# Altium footprint library Footprints.PcbLib: 10 footprints
Each footprint in its own frame and in the unit in brackets; x right, y up, seen from the top. Pads: shape width x height; smd on the part's side, far side on the other; paste and mask are expansions set on the pad; w line width, h text height; cw(c..) or ccw(c..) is an arc to the next point about the centre after c.
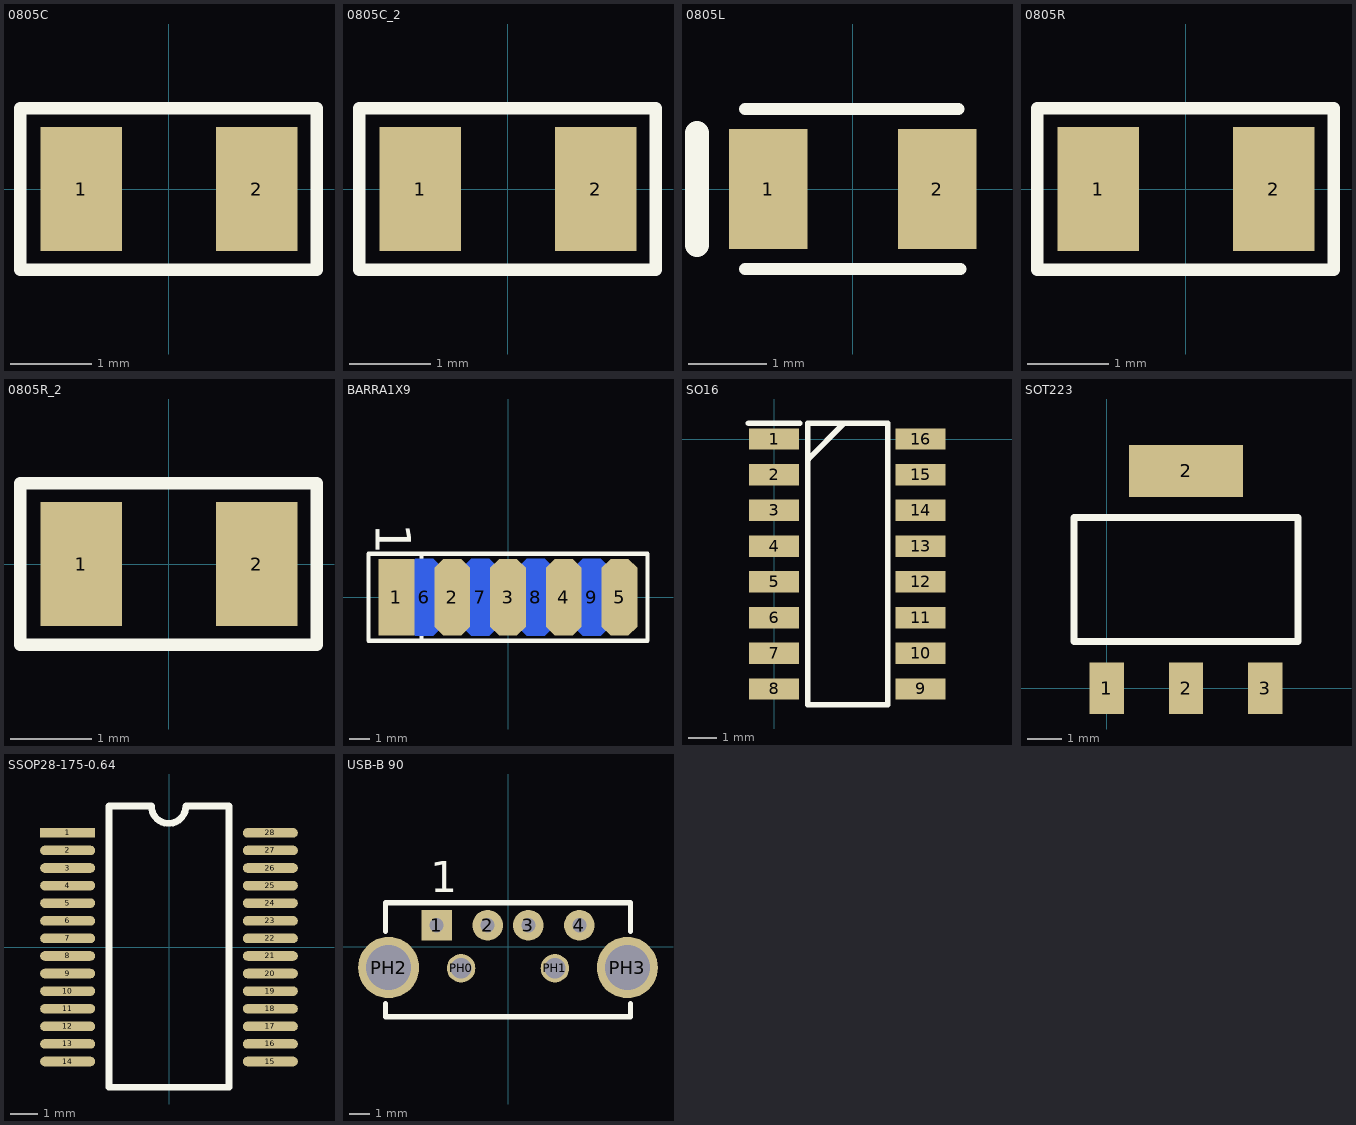
[diagram p0: the footprints below, top view; thin cyan lines are the x and y axes]

## 0805C [mil]
height 21.65
pads (2):
  rect 39.37x60 smd: 1(-42.3,0) 2(42.3,0)
Top Overlay:
  lines w6: -71.7,-39 71.3,-39 71.3,39 -71.7,39 -71.7,-39
3D body "User Library-cap0805_cap0805_body.STEP": height 35.83, standoff -0.39, extent -39.57,-24.6 39.57,24.6

## 0805C_2 [mil]
pads (2):
  rect 39.37x60 smd: 1(-42.3,0) 2(42.3,0)
Top Overlay:
  lines w6: -71.7,-39 71.3,-39 71.3,39 -71.7,39 -71.7,-39
3D body "User Library-cap0805_cap0805_body.STEP": height 35.83, standoff -0.39, extent -39.57,-24.6 39.57,24.6

## 0805L [mil] "LED 0805"
pads (2):
  rect 39.37x60 smd: 1(-42.3,0) 2(42.3,0)
Top Overlay:
  lines w6: -54,-40 54,-40 ; -54,40 53,40
  lines w12: -78,-28 -78,28
3D body "0805LED.STEP": height 43.31, standoff 0, extent -39.76,-24.6 39.77,24.61

## 0805R [mil] "Resistor"
height 21.65
pads (2):
  rect 39.37x60 smd: 1(-42.3,0) 2(42.3,0)
Top Overlay:
  lines w6: -71.7,-39 71.3,-39 71.3,39 -71.7,39 -71.7,-39
3D body "User Library-res0805_res0805_body.STEP": height 20, standoff 0, extent -39.5,-24.5 39.5,24.5

## 0805R_2 [mil]
pads (2):
  rect 39.37x60 smd: 1(-42.3,0) 2(42.3,0)
Top Overlay:
  lines w6: -71.7,-39 71.3,-39 71.3,39 -71.7,39 -71.7,-39
3D body "User Library-res0805_res0805_body.STEP": height 20, standoff 0, extent -39.5,-24.5 39.5,24.5

## BARRA1X9 [mil] "ESPERA DB9"
pads (9):
  rect 70x150 smd: 1(-218.11,0)
  oct 70x150 smd: 2(-109.06,0) 3(0,0) 4(109.06,0) 5(218.11,0)
  oct 70x150 smd far side: 6(-163.58,0) 7(-54.53,0) 8(54.53,0) 9(163.58,0)
Top Overlay:
  lines w8: -168.9,-85 -168.9,85 ; -272.64,-85 -272.64,85 272.64,85 272.64,-85 -272.64,-85
  text "1" at -258.11,145 h70
Bottom Overlay:
  lines w8: -218.11,-85 -218.11,85 218.11,85 218.11,-85 -218.11,-85

## SO16 [mil]
pads (16):
  rect 70x30 smd: 1(0,0) 2(0,-50) 3(0,-100) 4(0,-150) 5(0,-200) 6(0,-250) 7(0,-300) 8(0,-350) 9(205,-350) 10(205,-300) 11(205,-250) 12(205,-200) 13(205,-150) 14(205,-100) 15(205,-50) 16(205,0)
Top Overlay:
  lines w8: -36,22 36,22 ; 48,-28 98,22 ; 47,-372 159,-372 159,22 47,22 47,-372
3D body "SO16.STEP": height 55.12, standoff 0, extent -0.82,-371.85 205.55,21.85

## SOT223 [mm]
height 1.8
pads (4):
  rect 1x1.5 smd: 1(0,0) 2(2.3,0) 3(4.6,0)
  rect 3.3x1.5 smd: 2(2.3,6.3)
Top Overlay:
  lines w0.203: -0.95,1.35 5.55,1.35 5.55,4.95 -0.95,4.95 -0.95,1.35
3D body "SOT223.STEP": height 1.68, standoff 0, extent -0.9,-0.05 5.6,6.25

## SSOP28-175-0.64 [mil]
pads (28):
  rect 80x14 smd: 1(-147.5,166.34)
  oval 80x14 smd: 2(-147.5,140.75) 3(-147.5,115.16) 4(-147.5,89.57) 5(-147.5,63.98) 6(-147.5,38.39) 7(-147.5,12.8) 8(-147.5,-12.8) 9(-147.5,-38.39) 10(-147.5,-63.98) 11(-147.5,-89.57) 12(-147.5,-115.16) 13(-147.5,-140.75) 14(-147.5,-166.34) 15(147.5,-166.34) 16(147.5,-140.75) 17(147.5,-115.16) 18(147.5,-89.57) 19(147.5,-63.98) 20(147.5,-38.39) 21(147.5,-12.8) 22(147.5,12.8) 23(147.5,38.39) 24(147.5,63.98) 25(147.5,89.57) 26(147.5,115.16) 27(147.5,140.75) 28(147.5,166.34)
Top Overlay:
  lines w10: -87.5,-203.74 87.5,-203.74 87.5,205.12 24.5,205.12 cw(c-0.5,205.12) -25.5,205.12 -87.5,205.12 -87.5,-203.74
3D body "SSOP-28-FT232RL.STEP": height 85.04, standoff 0, extent -152.67,-203.34 152.68,203.35

## USB-B 90 [mm] "Conector USB fêmea 90°"
height 3.95
pads (8):
  rect 1.5x1.5 hole 0.7: 1(-3.5,1.05)
  round 1.5 hole 0.7: 2(-1,1.05) 3(1,1.05) 4(3.5,1.05)
  round 1.397 hole 1.016: PH0(-2.3,-1.05) PH1(2.3,-1.05)
  round 3 hole 2.2: PH2(-5.851,-1.018) PH3(5.851,-1.018)
Top Overlay:
  lines w0.254: -6.001,-2.794 -6.001,-3.429 6.001,-3.429 6.001,-2.794 ; -6.001,0.762 -6.001,2.159 6.001,2.159 6.001,0.762
  text "1" at -3.81,2.667 h1.52
3D body "14380.stp": height 3.14, standoff -2.66, extent -6.303,-18.75 6.303,1.175